# Altium integrated library FETs - MOSFETs.IntLib: 1 symbol
Pins are listed as number, name and electrical type; pins without a type are passive.

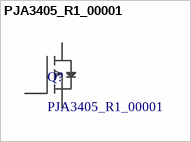
[diagram p0: symbol PJA3405_R1_00001]

## PJA3405_R1_00001
designator Q?
Power Field-Effect Transistor, 3.6A I(D), 30V, 0.073ohm, 1-Element, P-Channel, Silicon, Metal-oxide Semiconductor FET; Manufacturer: Pan Jit; Designed: Ferdi; Supplier 1: Digi-Key; Manufacturer Part Number: PJA3405_R1_00001; RoHS: Yes; Stock 1: 15989; Pricing 1: 1=0,43, 10=0,303, 100=0,1529, 500=0,1355, 1000=0,10544 (USD); Supplier Part Number 1: 3757-PJA3405_R1_00001CT-ND; ComponentLink1Description: DataSheet; ComponentLink1URL: https://cdn.ozdisan.com/ETicaret_Dosya/462896_8312892.pdf
footprint SOT-23 (SOT-23 / 3)
pins: 1 G, 2 S, 3 D